# Altium footprint library PCB1p.PcbLib: 28 footprints (part 2 of 2)
Each footprint in its own frame and in the unit in brackets; x right, y up, seen from the top. Pads: shape width x height; smd on the part's side, far side on the other; paste and mask are expansions set on the pad; w line width, h text height; cw(c..) or ccw(c..) is an arc to the next point about the centre after c.
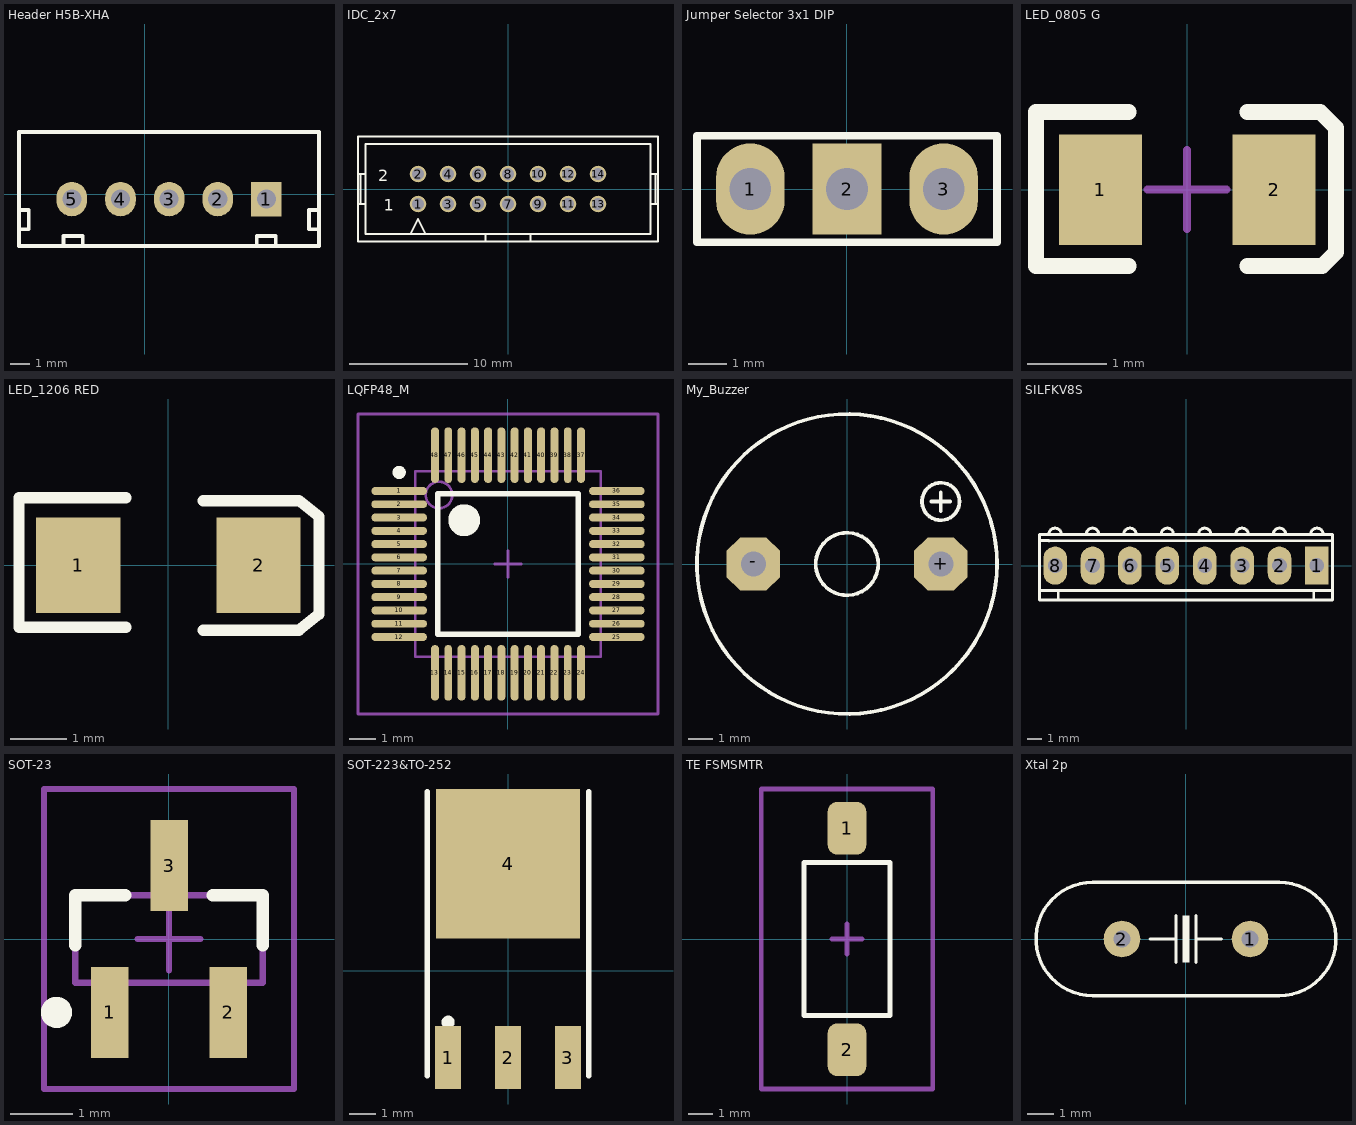
[diagram p1: the footprints below, top view; thin cyan lines are the x and y axes]

## Header H5B-XHA [mm]
height 1.6
pads (5):
  rect 1.6x1.8 hole 1: 1(6.35,-0.25)
  oval 1.6x1.8 hole 1: 2(3.81,-0.25) 3(1.27,-0.25) 4(-1.27,-0.25) 5(-3.81,-0.25)
Top Overlay:
  lines w0.2: -6.57,-1.825 -6.065,-1.825 -6.065,-0.825 -6.57,-0.825 ; -4.24,-2.68 -4.24,-2.175 -3.24,-2.175 -3.24,-2.68 ; 5.845,-2.68 5.845,-2.175 6.845,-2.175 6.845,-2.68 ; 9.075,-1.825 8.57,-1.825 8.57,-0.825 9.075,-0.825 ; -6.57,-2.7 9.1,-2.7 9.1,3.25 -6.57,3.25 -6.57,-2.7
3D body "User Library-XH_Mid.STEP": height 7, standoff -3.5, extent -2.505,-2.725 -0.005,3.275
3D body "User Library-XH_Mid.STEP": height 7, standoff -3.5, extent -0.005,-2.725 2.495,3.275
3D body "User Library-XH_Right.STEP": height 7, standoff -3.5, extent 4.995,-2.725 9.045,3.275
3D body "User Library-XH_Mid.STEP": height 7, standoff -3.5, extent 2.495,-2.725 4.995,3.275
3D body "User Library-XH_Left.STEP": height 7, standoff -3.5, extent -6.515,-2.725 -2.465,3.275

## IDC_2x7 [mm] "IDC, HEADER BOX 2X7, 14p, 2.54mm pitch"
height 2.38
pads (14):
  round 1.4 / inner round 1.4 / far side oval 1.4x2.2 hole 1 mask+0.1: 1(-7.62,-1.27) 2(-7.62,1.27) 3(-5.08,-1.27) 4(-5.08,1.27) 5(-2.54,-1.27) 6(-2.54,1.27) 7(0,-1.27) 8(0,1.27) 9(2.54,-1.27) 10(2.54,1.27) 11(5.08,-1.27) 12(5.08,1.27) 13(7.62,-1.27) 14(7.62,1.27)
Top Overlay:
  lines w0.2: -12.7,-1.27 -12.065,-1.27 ; -12.7,1.27 -12.065,1.27 ; -12.488,-1.27 -12.488,1.27 ; -8.255,-3.81 -7.62,-2.54 -6.985,-3.81 ; -1.905,-4.445 -1.905,-3.81 ; 1.905,-4.445 1.905,-3.81 ; 12.065,-1.27 12.7,-1.27 ; 12.065,1.27 12.7,1.27 ; 12.488,-1.27 12.488,1.27 ; -1.905,-3.81 -12.065,-3.81 -12.065,3.81 12.065,3.81 12.065,-3.81 1.905,-3.81 ; -1.905,-3.81 1.905,-3.81 ; -12.7,-4.445 -12.7,4.445 12.7,4.445 12.7,-4.445 -12.7,-4.445
  text "1" at -10.541,-1.854 h1
  text "2" at -10.973,0.66 h1
3D body "TE_1-1634688-4_IDC14_V.STEP": height 9.1, standoff -3.2, extent -12.73,-4.55 12.7,4.548

## Jumper Selector 3x1 DIP [mm]
height 2.38
pads (3):
  oval 1.8x2.4 hole 1.1: 1(-2.54,0) 3(2.54,0)
  rect 1.8x2.4 hole 1.1: 2(0,0)
Top Overlay:
  lines w0.2: -3.94,-1.4 3.94,-1.4 3.94,1.4 -3.94,1.4 -3.94,-1.4
3D body "Header3.STEP": height 8.38, standoff -2.54, extent -3.785,-1.27 3.835,1.27
3D body: height 10.16, standoff 3.05, extent -3.785,-1.27 1.295,1.27

## LED_0805 G [mm]
height 2.38
pads (2):
  rect 1.05x1.4 smd: 1(-1.1,0) 2(1.1,0)
Top Overlay:
  lines w0.2: -0.74,-0.968 -1.915,-0.968 -1.915,0.982 -0.74,0.982 ; 0.76,-0.968 1.71,-0.968 1.885,-0.793 1.885,0.782 1.685,0.982 0.76,0.982
Mechanical 15:
  lines w0.1: -0.502,0 0.498,0 ; -0.002,-0.5 -0.002,0.5
3D body "User Library-User Library-led_0805 GRE.STEP": height 1.1, standoff 0, extent -1,-0.618 1.02,0.632

## LED_1206 RED [mm]
height 2.38
pads (2):
  rect 1.5x1.7 smd: 1(-1.6,0) 2(1.6,0)
Top Overlay:
  lines w0.2: -0.755,-1.104 -2.655,-1.104 -2.655,1.196 -0.755,1.196 ; 0.62,-1.154 2.32,-1.154 2.675,-0.87 2.675,0.862 2.32,1.146 0.62,1.146
3D body: height 1.11, standoff -0.4, extent -1.6,-0.8 1.6,0.8

## LQFP48_M [mm] "Thin QFP, 48-Leads, Body 7x7mm, Pitch 0.5mm, IPC Low Density"
height 1.6
pads (48):
  oval 2.1x0.3 smd: 1(-4.1,2.75) 2(-4.1,2.25) 3(-4.1,1.75) 4(-4.1,1.25) 5(-4.1,0.75) 6(-4.1,0.25) 7(-4.1,-0.25) 8(-4.1,-0.75) 9(-4.1,-1.25) 10(-4.1,-1.75) 11(-4.1,-2.25) 12(-4.1,-2.75) 25(4.1,-2.75) 26(4.1,-2.25) 27(4.1,-1.75) 28(4.1,-1.25) 29(4.1,-0.75) 30(4.1,-0.25) 31(4.1,0.25) 32(4.1,0.75) 33(4.1,1.25) 34(4.1,1.75) 35(4.1,2.25) 36(4.1,2.75)
  oval 0.3x2.1 smd: 13(-2.75,-4.1) 14(-2.25,-4.1) 15(-1.75,-4.1) 16(-1.25,-4.1) 17(-0.75,-4.1) 18(-0.25,-4.1) 19(0.25,-4.1) 20(0.75,-4.1) 21(1.25,-4.1) 22(1.75,-4.1) 23(2.25,-4.1) 24(2.75,-4.1) 37(2.75,4.1) 38(2.25,4.1) 39(1.75,4.1) 40(1.25,4.1) 41(0.75,4.1) 42(0.25,4.1) 43(-0.25,4.1) 44(-0.75,4.1) 45(-1.25,4.1) 46(-1.75,4.1) 47(-2.25,4.1) 48(-2.75,4.1)
Top Overlay:
  circle w0.6: c-1.65,1.65 r0.3
  circle w0.25: c-4.1,3.45 r0.125
  lines w0.2: -2.65,-2.65 2.65,-2.65 2.65,2.65 -2.65,2.65 -2.65,-2.65
Mechanical 13:
  circle w0.1: c-2.6,2.6 r0.5
  lines w0.1: -3.5,-3.5 3.5,-3.5 3.5,3.5 -3.5,3.5 -3.5,-3.5
Mechanical 15:
  lines w0.1: -0.5,0 0.5,0 ; 0,-0.5 0,0.5 ; -5.65,-5.65 5.65,-5.65 5.65,5.65 -5.65,5.65 -5.65,-5.65
3D body: height 1.6, standoff 0, extent -3.5,-3.5 3.5,3.5

## My_Buzzer [mil]
height 354.33
pads (2):
  oct 85x85 hole 40: +(150,0) -(-150,0)
Top Overlay:
  circle w6: c150,100 r30
  circle w6: c0,0 r50
  circle w6: c0,0 r240
  lines w6: 135,100 165,100 ; 150,85 150,115

## SILFKV8S [mm]
height 2.38
pads (8):
  rect 1.6x2.6 hole 1: 1(8.89,0)
  oval 1.6x2.6 hole 1: 2(6.35,0) 3(3.81,0) 4(1.27,0) 5(-1.27,0) 6(-3.81,0) 7(-6.35,0) 8(-8.89,0)
Top Overlay:
  lines w0.203: -9.948,-1.693 9.948,-1.693 ; -9.948,1.693 -9.313,1.693 ; -9.313,2.117 cw(c-8.89,2.117) -8.467,2.117 ; -9.305,1.685 9.948,1.693 ; -8.678,-2.328 -8.678,-1.693 ; -6.773,2.117 cw(c-6.35,2.117) -5.927,2.117 ; -4.233,2.117 cw(c-3.81,2.117) -3.387,2.117 ; -1.693,2.117 cw(c-1.27,2.117) -0.847,2.117 ; 0.847,2.117 cw(c1.27,2.117) 1.693,2.117 ; 3.387,2.117 cw(c3.81,2.117) 4.233,2.117 ; 5.927,2.117 cw(c6.35,2.117) 6.773,2.117 ; 8.467,2.117 cw(c8.89,2.117) 9.313,2.117 ; 8.678,-2.328 8.678,-1.693 ; -9.948,-2.328 9.948,-2.328 9.948,2.117 -9.948,2.117 -9.948,-2.328

## SOT-23 [mm]
height 2.38
pads (3):
  rect 0.6x1.45 smd: 1(-0.95,-1.175) 2(0.95,-1.175) 3(0,1.175)
Top Overlay:
  circle w0.25: c-1.8,-1.175 r0.125
  lines w0.2: -1.5,-0.1 -1.5,0.7 -0.7,0.7 ; 0.7,0.7 1.5,0.7 1.5,-0.1
Mechanical 13:
  lines w0.1: -1.5,-0.7 1.5,-0.7 1.5,0.7 -1.5,0.7 -1.5,-0.7
Mechanical 15:
  lines w0.1: -0.5,0 0.5,0 ; 0,-0.5 0,0.5 ; -2,-2.4 2,-2.4 2,2.4 -2,2.4 -2,-2.4
3D body "User Library-N-MOS_BSS123_SOT23.STEP": height 1, standoff 0, extent -1.45,-1.225 1.45,1.075

## SOT-223&TO-252 [mm]
height 2.38
pads (4):
  rect 1x2.4 smd: 1(-2.285,-3.319) 2(0.001,-3.319) 3(2.285,-3.319)
  rect 5.5x5.7 smd: 4(0,4.081)
Top Overlay:
  circle w0.25: c-2.285,-1.969 r0.125
  lines w0.2: -3.085,-4.019 -3.085,6.831 ; 3.085,-4.019 3.085,6.831

## TE FSMSMTR [mm]
height 4.42
pads (2):
  rrect50% 1.6x2.19 smd: 1(0,4.595) 2(0,-4.595)
Top Overlay:
  lines w0.2: -1.778,-3.175 -1.778,3.175 1.778,3.175 1.778,-3.175 -1.778,-3.175
Mechanical 15:
  lines w0.2: -0.635,0 0.635,0 ; 0,-0.635 0,0.635 ; -3.556,-6.223 3.556,-6.223 3.556,6.223 -3.556,6.223 -3.556,-6.223
3D body "FSMSMTR.STEP": height 4.42, standoff 0, extent -1.75,-4.984 1.75,4.985

## Xtal 2p [mil]
height 93.7
pads (2):
  round 55 hole 25: 1(96.06,0) 2(-96.06,0)
Top Overlay:
  region: 5,34.99 -5,34.99 -5,-35.01 5,-35.01
  lines w5: -54,0 -15,0 ; -15,-35 -15,35 ; 15,-35 15,35 ; 15,0 53,0 ; -140,-85 cw(c-140,0) -140,85 140,85 cw(c140,0) 140,-85 -140,-85
3D body "Crystal-3.8mm.STEP": height 140.16, standoff -78.74, extent -226.38,-88.58 226.38,88.58